# Altium footprint library 封装库.PcbLib: 324 footprints (part 4 of 21)
Each footprint in its own frame and in the unit in brackets; x right, y up, seen from the top. Pads: shape width x height; smd on the part's side, far side on the other; paste and mask are expansions set on the pad; w line width, h text height; cw(c..) or ccw(c..) is an arc to the next point about the centre after c.
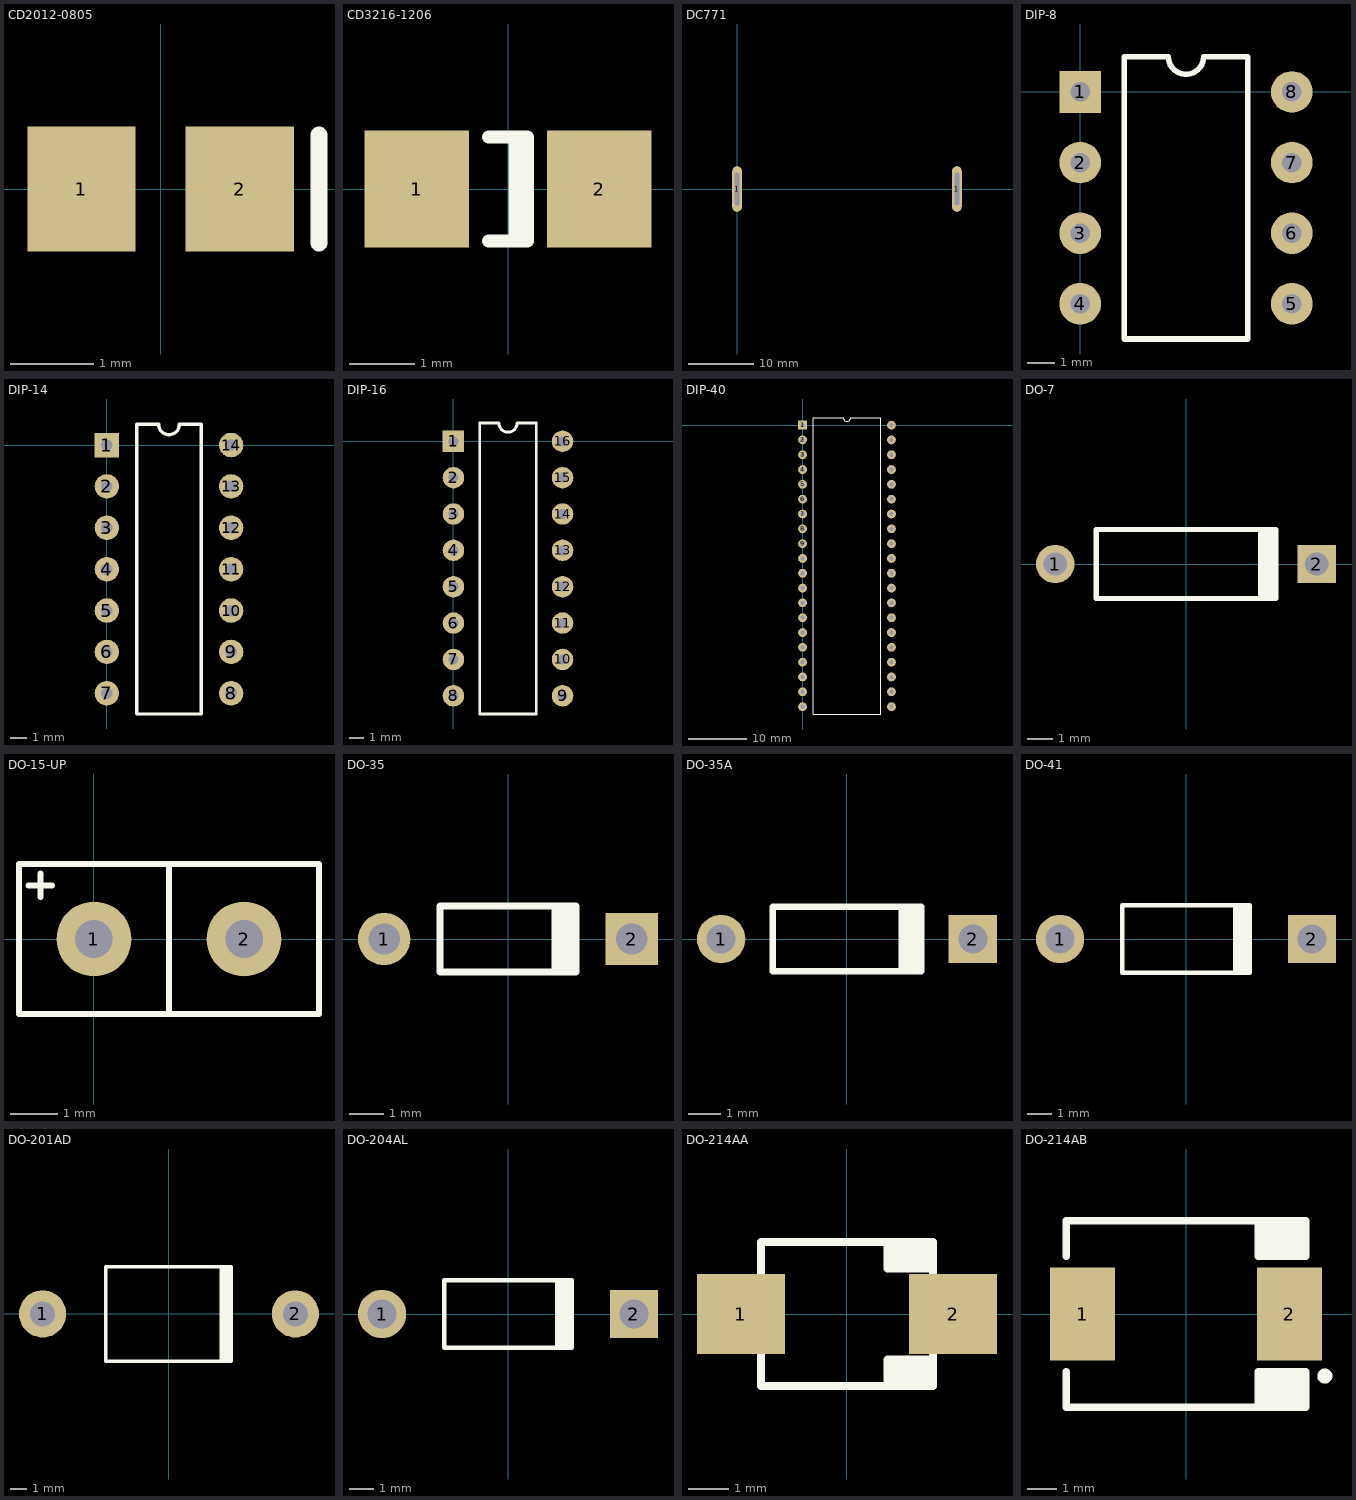
[diagram p3: the footprints below, top view; thin cyan lines are the x and y axes]

## CD2012-0805 [mm] "Chip Diode; Body 2.0 x 1.3 mm (LxW typ)"
height 1.1
pads (2):
  rect 1.3x1.5 smd: 1(-0.95,0) 2(0.95,0)
Top Overlay:
  lines w0.2: 1.9,-0.65 1.9,0.65

## CD3216-1206 [mm] "Chip Diode; Body 3.2 x 1.6 mm (LxW typ)"
height 1.35
pads (2):
  rect 1.6x1.8 smd: 1(-1.4,0) 2(1.4,0)
Top Overlay:
  lines w0.2: -0.3,-0.8 0.3,-0.8 0.3,0.8 -0.3,0.8 ; 0.11,-0.8 0.11,0.8

## DC771 [mm] "711 230V直流电机整流桥"
pads (2):
  oval 1.5x7 hole 0.7 slot 5 at 90 deg: 1(0,0) 1(33.7,0)
Multi-Layer:
  circle w0.762: c16.85,0 r10
  circle w0.762: c16.85,0 r23
  lines w10: 1.579,-7.121 cw(c16.85,0) 1.579,7.121 ; 9.729,-15.271 ccw(c16.85,0) 23.971,-15.271 ; 9.729,15.271 cw(c16.85,0) 23.971,15.271 ; 32.121,-7.121 ccw(c16.85,0) 32.121,7.121

## DIP-8 [mm] "width 7.62mm"
pads (8):
  rect 1.5x1.5 hole 0.7: 1(0,0)
  round 1.5 hole 0.7: 2(0,-2.54) 3(0,-5.08) 4(0,-7.62) 5(7.62,-7.62) 6(7.62,-5.08) 7(7.62,-2.54) 8(7.62,0)
Top Overlay:
  lines w0.2: 1.585,-8.89 6.035,-8.89 6.035,1.27 4.445,1.27 cw(c3.81,1.27) 3.175,1.27 1.585,1.27 1.585,-8.89

## DIP-14 [mm] "width 7.62mm"
pads (14):
  rect 1.5x1.5 hole 0.7: 1(0,0)
  round 1.5 hole 0.7: 2(0,-2.54) 3(0,-5.08) 4(0,-7.62) 5(0,-10.16) 6(0,-12.7) 7(0,-15.24) 8(7.62,-15.24) 9(7.62,-12.7) 10(7.62,-10.16) 11(7.62,-7.62) 12(7.62,-5.08) 13(7.62,-2.54) 14(7.62,0)
Top Overlay:
  lines w0.2: 1.835,-16.51 1.835,1.27 3.175,1.27 ccw(c3.81,1.27) 4.445,1.27 5.785,1.27 5.785,-16.51 1.835,-16.51

## DIP-16 [mm] "width 7.62mm"
pads (16):
  rect 1.5x1.5 hole 0.7: 1(0,0)
  round 1.5 hole 0.7: 2(0,-2.54) 3(0,-5.08) 4(0,-7.62) 5(0,-10.16) 6(0,-12.7) 7(0,-15.24) 8(0,-17.78) 9(7.62,-17.78) 10(7.62,-15.24) 11(7.62,-12.7) 12(7.62,-10.16) 13(7.62,-7.62) 14(7.62,-5.08) 15(7.62,-2.54) 16(7.62,0)
Top Overlay:
  lines w0.2: 1.835,-19.05 1.835,1.27 3.175,1.27 ccw(c3.81,1.27) 4.445,1.27 5.785,1.27 5.785,-19.05 1.835,-19.05

## DIP-40 [mm]
pads (40):
  rect 1.5x1.5 hole 0.7: 1(0,0)
  round 1.5 hole 0.7: 2(0,-2.54) 3(0,-5.08) 4(0,-7.62) 5(0,-10.16) 6(0,-12.7) 7(0,-15.24) 8(0,-17.78) 9(0,-20.32) 10(0,-22.86) 11(0,-25.4) 12(0,-27.94) 13(0,-30.48) 14(0,-33.02) 15(0,-35.56) 16(0,-38.1) 17(0,-40.64) 18(0,-43.18) 19(0,-45.72) 20(0,-48.26) 21(15.24,-48.26) 22(15.24,-45.72) 23(15.24,-43.18) 24(15.24,-40.64) 25(15.24,-38.1) 26(15.24,-35.56) 27(15.24,-33.02) 28(15.24,-30.48) 29(15.24,-27.94) 30(15.24,-25.4) 31(15.24,-22.86) 32(15.24,-20.32) 33(15.24,-17.78) 34(15.24,-15.24) 35(15.24,-12.7) 36(15.24,-10.16) 37(15.24,-7.62) 38(15.24,-5.08) 39(15.24,-2.54) 40(15.24,0)
Top Overlay:
  lines w0.2: 1.835,-49.53 1.835,1.27 6.985,1.27 ccw(c7.62,1.27) 8.255,1.27 13.405,1.27 13.405,-49.53 1.835,-49.53

## DO-7 [mm] "Diode, Axial; Body 7 x 2.7 mm (LxDia. max), Lead Dia. 0.53 mm (max)"
height 2.7
pads (2):
  round 1.5 hole 0.9: 1(-5.1,0)
  rect 1.5x1.5 hole 0.9: 2(5.1,0)
Top Overlay:
  rectangle: 2.8,-1.35 3.6,1.35
  lines w0.2: 3.5,-1.35 -3.5,-1.35 -3.5,1.35 3.5,1.35

## DO-15-UP [mm]
height 7.5
pads (2):
  round 1.6 hole 0.8: 1(0,0) 2(3.2,0)
Top Overlay:
  lines w0.127: -1.393,1.143 -0.893,1.143 ; -1.143,0.893 -1.143,1.393 ; 1.6,-1.6 1.6,1.6 ; -1.6,-1.6 4.8,-1.6 4.8,1.6 -1.6,1.6 -1.6,-1.6

## DO-35 [mm] "Diode, Axial; Body 3.8 x 1.9 mm (LxDia. max), Lead Dia. 0.53 mm (max)"
height 1.9
pads (2):
  round 1.5 hole 0.9: 1(-3.55,0)
  rect 1.5x1.5 hole 0.9: 2(3.55,0)
Top Overlay:
  rectangle: 1.25,-0.95 2.05,0.95
  lines w0.2: 1.95,-0.95 -1.95,-0.95 -1.95,0.95 1.95,0.95

## DO-35A [mm] "Diode, Axial; Body 4.6 x 1.9 mm (LxDia. max), Lead Dia. 0.53 mm (max)"
height 2
pads (2):
  round 1.5 hole 0.9: 1(-3.9,0)
  rect 1.5x1.5 hole 0.9: 2(3.9,0)
Top Overlay:
  rectangle: 1.6,-1 2.4,1
  lines w0.2: 2.3,-1 -2.3,-1 -2.3,1 2.3,1

## DO-41 [mm] "Diode, Axial; Body 5.2 x 2.7 mm (LxDia. max), Lead Dia. 0.86 mm (max)"
height 2.8
pads (2):
  round 2 hole 1.2: 1(-5.23,0)
  rect 2x2 hole 1.2: 2(5.23,0)
Top Overlay:
  rectangle: 1.95,-1.4 2.75,1.4
  lines w0.2: 2.65,-1.4 -2.65,-1.4 -2.65,1.4 2.65,1.4

## DO-201AD [mm] "Diode, Axial; Body 9.5 x 5.3 mm (LxDia. max), Lead Dia. 1.32 mm (max)"
height 5.4
pads (2):
  round 2.8 hole 1.5: 1(-7.5,0) 2(7.5,0)
Top Overlay:
  rectangle: 3.01,-2.806 3.81,2.794
  lines w0.2: 3.708,-2.8 -3.759,-2.8 -3.759,2.8 3.708,2.8

## DO-204AL [mm] "Diode, Axial; Body 5.2 x 2.7 mm (LxDia. max), Lead Dia. 0.86 mm (max)"
height 2.7
pads (2):
  round 2 hole 1.2: 1(-5.23,0)
  rect 2x2 hole 1.2: 2(5.23,0)
Top Overlay:
  rectangle: 1.95,-1.4 2.75,1.4
  lines w0.2: 2.65,-1.4 -2.65,-1.4 -2.65,1.4 2.65,1.4

## DO-214AA [mm] "SMB"
pads (2):
  rect 2.2x2 smd: 1(-2.659,0) 2(2.661,0)
Top Overlay:
  rectangle: 1.016,-1.81 2.159,-1.143
  rectangle: 1.016,1.143 2.159,1.81
  lines w0.2: -2.157,-1.81 -2.158,1.81 ; -2.157,-1.81 2.157,-1.81 ; -2.157,1.81 2.157,1.81 2.158,-1.81 ; 1.016,-1.81 1.016,-1.143 2.159,-1.143 ; 1.016,1.81 1.016,1.143 2.159,1.143

## DO-214AB [mm] "SMC"
height 2.65
pads (2):
  rect 2.2x3.15 smd: 1(-3.5,0) 2(3.5,0)
Top Overlay:
  circle w0.254: c4.7,-2.1 r0.127
  lines w0.254: -4.05,-1.95 -4.05,-3.15 4.05,-3.15 4.05,-1.95 2.45,-1.95 2.45,-3.15 ; -4.05,1.95 -4.05,3.15 4.05,3.15 4.05,1.95 2.45,1.95 2.45,3.15 ; 2.65,-3.15 2.65,-1.95 ; 2.65,1.95 2.65,3.15 ; 2.85,-3.15 2.85,-1.95 ; 2.85,1.95 2.85,3.15 ; 3.05,-3.15 3.05,-1.95 ; 3.05,1.95 3.05,3.15 ; 3.25,-3.15 3.25,-1.95 ; 3.25,1.95 3.25,3.15 ; 3.45,-3.15 3.45,-1.95 ; 3.45,1.95 3.45,3.15 ; 3.65,-3.15 3.65,-1.95 ; 3.65,1.95 3.65,3.15 ; 3.85,-3.15 3.85,-1.95 ; 3.85,1.95 3.85,3.15
3D body "SMC.STEP": height 2.67, standoff 0.02, extent -3.95,-2.95 3.95,2.95